# Altium integrated library Linear Technology Power Management uModule Regulators.IntLib: 166 symbols (part 48 of 67)
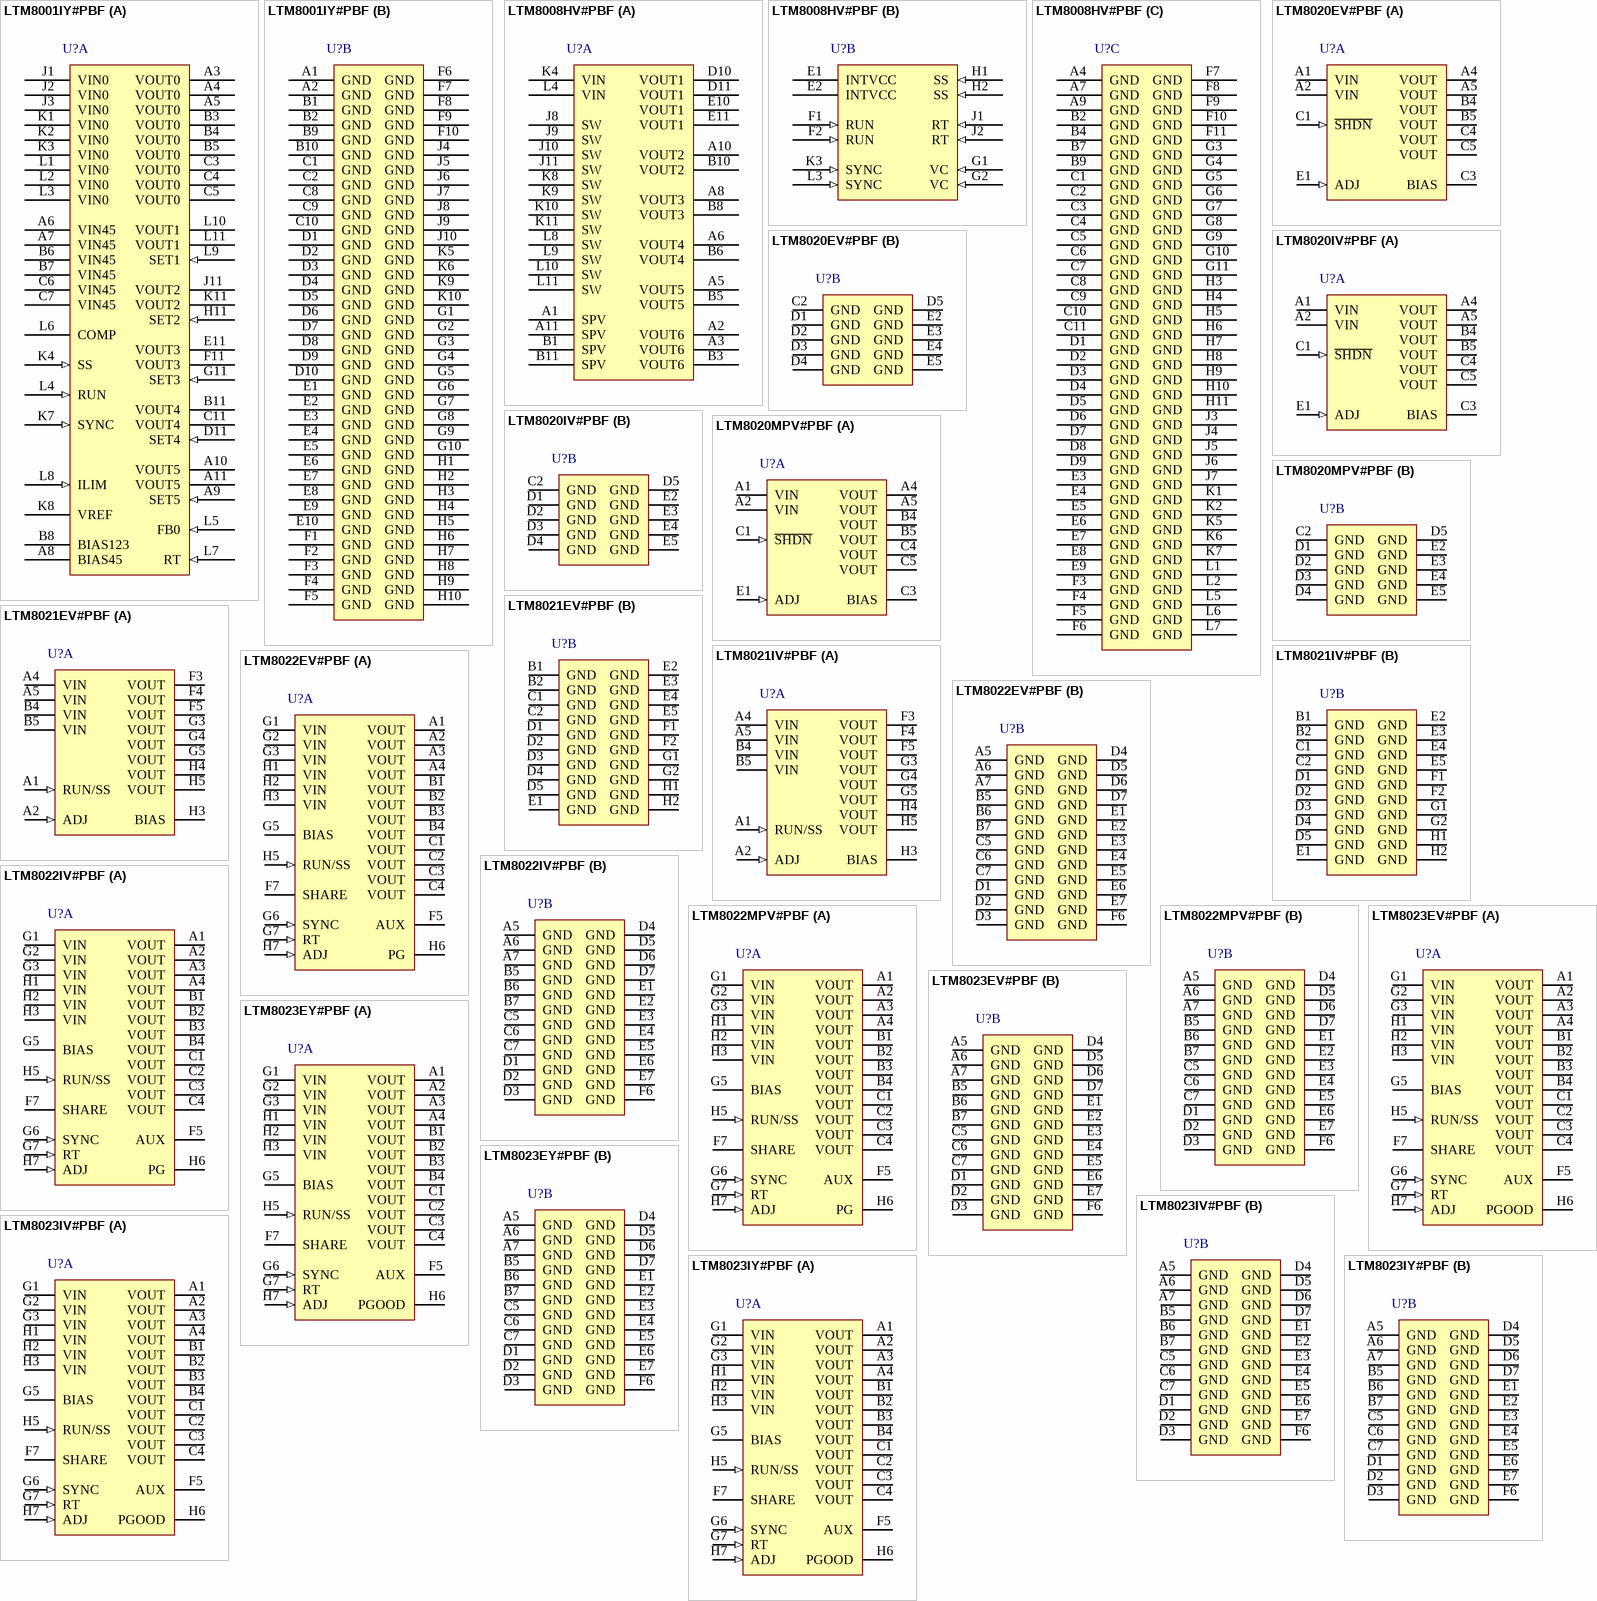
[diagram p74: symbols LTM8001IY#PBF to LTM8023IY#PBF]

## LTM8008HV#PBF
designator U?
72 VIN, 6 Output DC/DC SEPIC uModule Regulator, 121-pin LGA, -40 to 150 degC, Pb-Free, Tray; Manufacturer: Linear Technology; PartNumber: LTM8008HV#PBF; Extended Temp: H; Frequency Adjust Range: 100kHz - 1MHz; Frequency Sync Range: 120kHz - 1MHz; Frequency(kHz): 1000; Ishutdown(uA): 70; Isupply(mA): 1.6; Number of Outputs: 6; Output Current(A): 0.5; Synchronous: no; Topology: Sepic, LDO; Vin Max(V): 72; Vin Min(V): 3; Vout Max(V): 5; Vout Min(V): 3.3; DatasheetVersion: Rev. A; PackageVersion: Rev. B, 02/2013; PackageReference: LGA-121; PackageDescription: 121-Pin LGA, Body 15 x 15 mm, Pitch 1.27 mm; Supplier 1: Digi-Key; Supplier Part Number 1: LTM8008HV#PBF-ND; Packing: Tray; RoHS: TRUE; Tracking: no; Mounting Technology: Surface Mount; Code_JEDEC: MO-222; ComponentLink1Description: Manufacturer URL; ComponentLink1URL: http://www.linear.com/; ComponentLink2Description: Datasheet; ComponentLink2URL: http://cds.linear.com/docs/en/datasheet/8008fa.pdf; ComponentLink3Description: Package Specification; ComponentLink3URL: http://cds.linear.com/docs/en/packaging/05081861_B_lga121.pdf
footprint LT-LGA-121-05-08-1861_V (LGA, 121-Leads, Body 15x15mm, Pitch 1.27mm)
part A pins: A1 SPV (power) "SPV (A1, B1, A11, B11): SEPIC Output Voltage. This is connected to the internal SEPIC feedback network and is used to power the six post regulators. It must be locally bypassed by at least 22uF. Apply a bypass capacitor at (See Datasheet)", A2 VOUT6 (power) "VOUT6 (A2, A3, B2): Output of the 3.3V, 300mA Linear Post Regulator. It must be bypassed by at least 10uF.", A3 VOUT6 (power) "VOUT6 (A2, A3, B2): Output of the 3.3V, 300mA Linear Post Regulator. It must be bypassed by at least 10uF.", A5 VOUT5 (power) "VOUT5 (A5, B5): Output of One of the Four 5V, 150mA Linear Post Regulators. It must be bypassed with at least 10uF.", A6 VOUT4 (power) "VOUT4 (A6, B6): Output of One of the Four 5V, 150mA Linear Post Regulators. It must be bypassed with at least 10uF.", A8 VOUT3 (power) "VOUT3 (A8, B8): Output of One of the Four 5V, 150mA Linear Post Regulators. It must be bypassed with at least 10uF.", A10 VOUT2 (power) "VOUT2 (A10, B10): Output of One of the Four 5V, 150mA Linear Post Regulators. It must be bypassed with at least 10uF.", A11 SPV (power) "SPV (A1, B1, A11, B11): SEPIC Output Voltage. This is connected to the internal SEPIC feedback network and is used to power the six post regulators. It must be locally bypassed by at least 22uF. Apply a bypass capacitor at (See Datasheet)", B1 SPV (power) "SPV (A1, B1, A11, B11): SEPIC Output Voltage. This is connected to the internal SEPIC feedback network and is used to power the six post regulators. It must be locally bypassed by at least 22uF. Apply a bypass capacitor at (See Datasheet)", B3 VOUT6 (power) "VOUT6 (A2, A3, B2): Output of the 3.3V, 300mA Linear Post Regulator. It must be bypassed by at least 10uF.", B5 VOUT5 (power) "VOUT5 (A5, B5): Output of One of the Four 5V, 150mA Linear Post Regulators. It must be bypassed with at least 10uF.", B6 VOUT4 (power) "VOUT4 (A6, B6): Output of One of the Four 5V, 150mA Linear Post Regulators. It must be bypassed with at least 10uF.", B8 VOUT3 (power) "VOUT3 (A8, B8): Output of One of the Four 5V, 150mA Linear Post Regulators. It must be bypassed with at least 10uF.", B10 VOUT2 (power) "VOUT2 (A10, B10): Output of One of the Four 5V, 150mA Linear Post Regulators. It must be bypassed with at least 10uF.", B11 SPV (power) "SPV (A1, B1, A11, B11): SEPIC Output Voltage. This is connected to the internal SEPIC feedback network and is used to power the six post regulators. It must be locally bypassed by at least 22uF. Apply a bypass capacitor at (See Datasheet)", D10 VOUT1 (power) "VOUT1 (Bank 2): Output of the 5V, 500mA Linear Post Regulator. It must be locally bypassed with at least 22uF.", D11 VOUT1 (power) "VOUT1 (Bank 2): Output of the 5V, 500mA Linear Post Regulator. It must be locally bypassed with at least 22uF.", E10 VOUT1 (power) "VOUT1 (Bank 2): Output of the 5V, 500mA Linear Post Regulator. It must be locally bypassed with at least 22uF.", E11 VOUT1 (power) "VOUT1 (Bank 2): Output of the 5V, 500mA Linear Post Regulator. It must be locally bypassed with at least 22uF.", J8 SW (power) "SW (Bank 3): SEPIC Converter Switch. This is the drain of the internal power switching MOSFET.", J9 SW (power) "SW (Bank 3): SEPIC Converter Switch. This is the drain of the internal power switching MOSFET.", J10 SW (power) "SW (Bank 3): SEPIC Converter Switch. This is the drain of the internal power switching MOSFET.", J11 SW (power) "SW (Bank 3): SEPIC Converter Switch. This is the drain of the internal power switching MOSFET.", K4 VIN (power) "VIN (K4, L4): Input Supply Pin. Must be locally bypassed with a 0.22uF or larger capacitor placed close to the pin.", K8 SW (power) "SW (Bank 3): SEPIC Converter Switch. This is the drain of the internal power switching MOSFET.", K9 SW (power) "SW (Bank 3): SEPIC Converter Switch. This is the drain of the internal power switching MOSFET.", K10 SW (power) "SW (Bank 3): SEPIC Converter Switch. This is the drain of the internal power switching MOSFET.", K11 SW (power) "SW (Bank 3): SEPIC Converter Switch. This is the drain of the internal power switching MOSFET.", L4 VIN (power) "VIN (K4, L4): Input Supply Pin. Must be locally bypassed with a 0.22uF or larger capacitor placed close to the pin.", L8 SW (power) "SW (Bank 3): SEPIC Converter Switch. This is the drain of the internal power switching MOSFET.", L9 SW (power) "SW (Bank 3): SEPIC Converter Switch. This is the drain of the internal power switching MOSFET.", L10 SW (power) "SW (Bank 3): SEPIC Converter Switch. This is the drain of the internal power switching MOSFET.", L11 SW (power) "SW (Bank 3): SEPIC Converter Switch. This is the drain of the internal power switching MOSFET."
part B pins: E1 INTVCC (power) "INTVCC (E1, E2): Regulated Supply for Internal Loads. This is derived from VIN and SPV; it must be bypassed with at least a 4.7uF capacitor placed close to the pin.", E2 INTVCC (power) "INTVCC (E1, E2): Regulated Supply for Internal Loads. This is derived from VIN and SPV; it must be bypassed with at least a 4.7uF capacitor placed close to the pin.", F1 RUN (in) "RUN (F1, F2): Shutdown and Undervoltage Detect Pin. An accurate 1.21V (nominal) falling threshold with externally programmable hysteresis detects when power is okay to enable switching. Rising hysteresis is generated by the (See Datasheet)", F2 RUN (in) "RUN (F1, F2): Shutdown and Undervoltage Detect Pin. An accurate 1.21V (nominal) falling threshold with externally programmable hysteresis detects when power is okay to enable switching. Rising hysteresis is generated by the (See Datasheet)", G1 VC (in) "VC (G1, G2): Error Amplifier Compensation Pin. This is used to stabilize the voltage loop with an external RC network.", G2 VC (in) "VC (G1, G2): Error Amplifier Compensation Pin. This is used to stabilize the voltage loop with an external RC network.", H1 SS (in) "SS (H1, H2): Soft-Start Pin. This pin modulates the compensation pin voltage (VC) clamp. The soft-start interval is set with an external capacitor. The pin has a 10uA (typical) pull-up current source to an internal 2.5V rail.(See Datasheet)", H2 SS (in) "SS (H1, H2): Soft-Start Pin. This pin modulates the compensation pin voltage (VC) clamp. The soft-start interval is set with an external capacitor. The pin has a 10uA (typical) pull-up current source to an internal 2.5V rail.(See Datasheet)", J1 RT (in) "RT (J1, J2): The RT pin is used to program the switching frequency of the LTM8008 by connecting a resistor from this pin to ground. Table 1 gives the resistor values that correspond to the resultant switching frequency. (See Datasheet)", J2 RT (in) "RT (J1, J2): The RT pin is used to program the switching frequency of the LTM8008 by connecting a resistor from this pin to ground. Table 1 gives the resistor values that correspond to the resultant switching frequency. (See Datasheet)", K3 SYNC (in) "SYNC (K3, L3): Frequency Synchronization Pin. It is used to synchronize the switching frequency to an external clock. If this feature is used, an RT resistor should be chosen to program a switching frequency 20% lower than (See Datasheet)", L3 SYNC (in) "SYNC (K3, L3): Frequency Synchronization Pin. It is used to synchronize the switching frequency to an external clock. If this feature is used, an RT resistor should be chosen to program a switching frequency 20% lower than (See Datasheet)"
part C pins: A4 GND (power) "GND (Bank 1): Ground. Tie these GND pins to a local ground plane under the LTM8008 and the circuit components. In most applications, the bulk of the heat flow out of the LTM8008 is through these pads, so the printed circuit (See Datasheet)", A7 GND (power) "GND (Bank 1): Ground. Tie these GND pins to a local ground plane under the LTM8008 and the circuit components. In most applications, the bulk of the heat flow out of the LTM8008 is through these pads, so the printed circuit (See Datasheet)", A9 GND (power) "GND (Bank 1): Ground. Tie these GND pins to a local ground plane under the LTM8008 and the circuit components. In most applications, the bulk of the heat flow out of the LTM8008 is through these pads, so the printed circuit (See Datasheet)", B2 GND (power) "GND (Bank 1): Ground. Tie these GND pins to a local ground plane under the LTM8008 and the circuit components. In most applications, the bulk of the heat flow out of the LTM8008 is through these pads, so the printed circuit (See Datasheet)", B4 GND (power) "GND (Bank 1): Ground. Tie these GND pins to a local ground plane under the LTM8008 and the circuit components. In most applications, the bulk of the heat flow out of the LTM8008 is through these pads, so the printed circuit (See Datasheet)", B7 GND (power) "GND (Bank 1): Ground. Tie these GND pins to a local ground plane under the LTM8008 and the circuit components. In most applications, the bulk of the heat flow out of the LTM8008 is through these pads, so the printed circuit (See Datasheet)", B9 GND (power) "GND (Bank 1): Ground. Tie these GND pins to a local ground plane under the LTM8008 and the circuit components. In most applications, the bulk of the heat flow out of the LTM8008 is through these pads, so the printed circuit (See Datasheet)", C1 GND (power) "GND (Bank 1): Ground. Tie these GND pins to a local ground plane under the LTM8008 and the circuit components. In most applications, the bulk of the heat flow out of the LTM8008 is through these pads, so the printed circuit (See Datasheet)", C2 GND (power) "GND (Bank 1): Ground. Tie these GND pins to a local ground plane under the LTM8008 and the circuit components. In most applications, the bulk of the heat flow out of the LTM8008 is through these pads, so the printed circuit (See Datasheet)", C3 GND (power) "GND (Bank 1): Ground. Tie these GND pins to a local ground plane under the LTM8008 and the circuit components. In most applications, the bulk of the heat flow out of the LTM8008 is through these pads, so the printed circuit (See Datasheet)", C4 GND (power) "GND (Bank 1): Ground. Tie these GND pins to a local ground plane under the LTM8008 and the circuit components. In most applications, the bulk of the heat flow out of the LTM8008 is through these pads, so the printed circuit (See Datasheet)", C5 GND (power) "GND (Bank 1): Ground. Tie these GND pins to a local ground plane under the LTM8008 and the circuit components. In most applications, the bulk of the heat flow out of the LTM8008 is through these pads, so the printed circuit (See Datasheet)", C6 GND (power) "GND (Bank 1): Ground. Tie these GND pins to a local ground plane under the LTM8008 and the circuit components. In most applications, the bulk of the heat flow out of the LTM8008 is through these pads, so the printed circuit (See Datasheet)", C7 GND (power) "GND (Bank 1): Ground. Tie these GND pins to a local ground plane under the LTM8008 and the circuit components. In most applications, the bulk of the heat flow out of the LTM8008 is through these pads, so the printed circuit (See Datasheet)", C8 GND (power) "GND (Bank 1): Ground. Tie these GND pins to a local ground plane under the LTM8008 and the circuit components. In most applications, the bulk of the heat flow out of the LTM8008 is through these pads, so the printed circuit (See Datasheet)", C9 GND (power) "GND (Bank 1): Ground. Tie these GND pins to a local ground plane under the LTM8008 and the circuit components. In most applications, the bulk of the heat flow out of the LTM8008 is through these pads, so the printed circuit (See Datasheet)", C10 GND (power) "GND (Bank 1): Ground. Tie these GND pins to a local ground plane under the LTM8008 and the circuit components. In most applications, the bulk of the heat flow out of the LTM8008 is through these pads, so the printed circuit (See Datasheet)", C11 GND (power) "GND (Bank 1): Ground. Tie these GND pins to a local ground plane under the LTM8008 and the circuit components. In most applications, the bulk of the heat flow out of the LTM8008 is through these pads, so the printed circuit (See Datasheet)", D1 GND (power) "GND (Bank 1): Ground. Tie these GND pins to a local ground plane under the LTM8008 and the circuit components. In most applications, the bulk of the heat flow out of the LTM8008 is through these pads, so the printed circuit (See Datasheet)", D2 GND (power) "GND (Bank 1): Ground. Tie these GND pins to a local ground plane under the LTM8008 and the circuit components. In most applications, the bulk of the heat flow out of the LTM8008 is through these pads, so the printed circuit (See Datasheet)", D3 GND (power) "GND (Bank 1): Ground. Tie these GND pins to a local ground plane under the LTM8008 and the circuit components. In most applications, the bulk of the heat flow out of the LTM8008 is through these pads, so the printed circuit (See Datasheet)", D4 GND (power) "GND (Bank 1): Ground. Tie these GND pins to a local ground plane under the LTM8008 and the circuit components. In most applications, the bulk of the heat flow out of the LTM8008 is through these pads, so the printed circuit (See Datasheet)", D5 GND (power) "GND (Bank 1): Ground. Tie these GND pins to a local ground plane under the LTM8008 and the circuit components. In most applications, the bulk of the heat flow out of the LTM8008 is through these pads, so the printed circuit (See Datasheet)", D6 GND (power) "GND (Bank 1): Ground. Tie these GND pins to a local ground plane under the LTM8008 and the circuit components. In most applications, the bulk of the heat flow out of the LTM8008 is through these pads, so the printed circuit (See Datasheet)", D7 GND (power) "GND (Bank 1): Ground. Tie these GND pins to a local ground plane under the LTM8008 and the circuit components. In most applications, the bulk of the heat flow out of the LTM8008 is through these pads, so the printed circuit (See Datasheet)", D8 GND (power) "GND (Bank 1): Ground. Tie these GND pins to a local ground plane under the LTM8008 and the circuit components. In most applications, the bulk of the heat flow out of the LTM8008 is through these pads, so the printed circuit (See Datasheet)", D9 GND (power) "GND (Bank 1): Ground. Tie these GND pins to a local ground plane under the LTM8008 and the circuit components. In most applications, the bulk of the heat flow out of the LTM8008 is through these pads, so the printed circuit (See Datasheet)", E3 GND (power) "GND (Bank 1): Ground. Tie these GND pins to a local ground plane under the LTM8008 and the circuit components. In most applications, the bulk of the heat flow out of the LTM8008 is through these pads, so the printed circuit (See Datasheet)", E4 GND (power) "GND (Bank 1): Ground. Tie these GND pins to a local ground plane under the LTM8008 and the circuit components. In most applications, the bulk of the heat flow out of the LTM8008 is through these pads, so the printed circuit (See Datasheet)", E5 GND (power) "GND (Bank 1): Ground. Tie these GND pins to a local ground plane under the LTM8008 and the circuit components. In most applications, the bulk of the heat flow out of the LTM8008 is through these pads, so the printed circuit (See Datasheet)", E6 GND (power) "GND (Bank 1): Ground. Tie these GND pins to a local ground plane under the LTM8008 and the circuit components. In most applications, the bulk of the heat flow out of the LTM8008 is through these pads, so the printed circuit (See Datasheet)", E7 GND (power) "GND (Bank 1): Ground. Tie these GND pins to a local ground plane under the LTM8008 and the circuit components. In most applications, the bulk of the heat flow out of the LTM8008 is through these pads, so the printed circuit (See Datasheet)", E8 GND (power) "GND (Bank 1): Ground. Tie these GND pins to a local ground plane under the LTM8008 and the circuit components. In most applications, the bulk of the heat flow out of the LTM8008 is through these pads, so the printed circuit (See Datasheet)", E9 GND (power) "GND (Bank 1): Ground. Tie these GND pins to a local ground plane under the LTM8008 and the circuit components. In most applications, the bulk of the heat flow out of the LTM8008 is through these pads, so the printed circuit (See Datasheet)", F3 GND (power) "GND (Bank 1): Ground. Tie these GND pins to a local ground plane under the LTM8008 and the circuit components. In most applications, the bulk of the heat flow out of the LTM8008 is through these pads, so the printed circuit (See Datasheet)", F4 GND (power) "GND (Bank 1): Ground. Tie these GND pins to a local ground plane under the LTM8008 and the circuit components. In most applications, the bulk of the heat flow out of the LTM8008 is through these pads, so the printed circuit (See Datasheet)", F5 GND (power) "GND (Bank 1): Ground. Tie these GND pins to a local ground plane under the LTM8008 and the circuit components. In most applications, the bulk of the heat flow out of the LTM8008 is through these pads, so the printed circuit (See Datasheet)", F6 GND (power) "GND (Bank 1): Ground. Tie these GND pins to a local ground plane under the LTM8008 and the circuit components. In most applications, the bulk of the heat flow out of the LTM8008 is through these pads, so the printed circuit (See Datasheet)", F7 GND (power) "GND (Bank 1): Ground. Tie these GND pins to a local ground plane under the LTM8008 and the circuit components. In most applications, the bulk of the heat flow out of the LTM8008 is through these pads, so the printed circuit (See Datasheet)", F8 GND (power) "GND (Bank 1): Ground. Tie these GND pins to a local ground plane under the LTM8008 and the circuit components. In most applications, the bulk of the heat flow out of the LTM8008 is through these pads, so the printed circuit (See Datasheet)", F9 GND (power) "GND (Bank 1): Ground. Tie these GND pins to a local ground plane under the LTM8008 and the circuit components. In most applications, the bulk of the heat flow out of the LTM8008 is through these pads, so the printed circuit (See Datasheet)", F10 GND (power) "GND (Bank 1): Ground. Tie these GND pins to a local ground plane under the LTM8008 and the circuit components. In most applications, the bulk of the heat flow out of the LTM8008 is through these pads, so the printed circuit (See Datasheet)", F11 GND (power) "GND (Bank 1): Ground. Tie these GND pins to a local ground plane under the LTM8008 and the circuit components. In most applications, the bulk of the heat flow out of the LTM8008 is through these pads, so the printed circuit (See Datasheet)", G3 GND (power) "GND (Bank 1): Ground. Tie these GND pins to a local ground plane under the LTM8008 and the circuit components. In most applications, the bulk of the heat flow out of the LTM8008 is through these pads, so the printed circuit (See Datasheet)", G4 GND (power) "GND (Bank 1): Ground. Tie these GND pins to a local ground plane under the LTM8008 and the circuit components. In most applications, the bulk of the heat flow out of the LTM8008 is through these pads, so the printed circuit (See Datasheet)", G5 GND (power) "GND (Bank 1): Ground. Tie these GND pins to a local ground plane under the LTM8008 and the circuit components. In most applications, the bulk of the heat flow out of the LTM8008 is through these pads, so the printed circuit (See Datasheet)", G6 GND (power) "GND (Bank 1): Ground. Tie these GND pins to a local ground plane under the LTM8008 and the circuit components. In most applications, the bulk of the heat flow out of the LTM8008 is through these pads, so the printed circuit (See Datasheet)", G7 GND (power) "GND (Bank 1): Ground. Tie these GND pins to a local ground plane under the LTM8008 and the circuit components. In most applications, the bulk of the heat flow out of the LTM8008 is through these pads, so the printed circuit (See Datasheet)", G8 GND (power) "GND (Bank 1): Ground. Tie these GND pins to a local ground plane under the LTM8008 and the circuit components. In most applications, the bulk of the heat flow out of the LTM8008 is through these pads, so the printed circuit (See Datasheet)", G9 GND (power) "GND (Bank 1): Ground. Tie these GND pins to a local ground plane under the LTM8008 and the circuit components. In most applications, the bulk of the heat flow out of the LTM8008 is through these pads, so the printed circuit (See Datasheet)", G10 GND (power) "GND (Bank 1): Ground. Tie these GND pins to a local ground plane under the LTM8008 and the circuit components. In most applications, the bulk of the heat flow out of the LTM8008 is through these pads, so the printed circuit (See Datasheet)", G11 GND (power) "GND (Bank 1): Ground. Tie these GND pins to a local ground plane under the LTM8008 and the circuit components. In most applications, the bulk of the heat flow out of the LTM8008 is through these pads, so the printed circuit (See Datasheet)", H3 GND (power) "GND (Bank 1): Ground. Tie these GND pins to a local ground plane under the LTM8008 and the circuit components. In most applications, the bulk of the heat flow out of the LTM8008 is through these pads, so the printed circuit (See Datasheet)", H4 GND (power) "GND (Bank 1): Ground. Tie these GND pins to a local ground plane under the LTM8008 and the circuit components. In most applications, the bulk of the heat flow out of the LTM8008 is through these pads, so the printed circuit (See Datasheet)", H5 GND (power) "GND (Bank 1): Ground. Tie these GND pins to a local ground plane under the LTM8008 and the circuit components. In most applications, the bulk of the heat flow out of the LTM8008 is through these pads, so the printed circuit (See Datasheet)", H6 GND (power) "GND (Bank 1): Ground. Tie these GND pins to a local ground plane under the LTM8008 and the circuit components. In most applications, the bulk of the heat flow out of the LTM8008 is through these pads, so the printed circuit (See Datasheet)", H7 GND (power) "GND (Bank 1): Ground. Tie these GND pins to a local ground plane under the LTM8008 and the circuit components. In most applications, the bulk of the heat flow out of the LTM8008 is through these pads, so the printed circuit (See Datasheet)", H8 GND (power) "GND (Bank 1): Ground. Tie these GND pins to a local ground plane under the LTM8008 and the circuit components. In most applications, the bulk of the heat flow out of the LTM8008 is through these pads, so the printed circuit (See Datasheet)", H9 GND (power) "GND (Bank 1): Ground. Tie these GND pins to a local ground plane under the LTM8008 and the circuit components. In most applications, the bulk of the heat flow out of the LTM8008 is through these pads, so the printed circuit (See Datasheet)", H10 GND (power) "GND (Bank 1): Ground. Tie these GND pins to a local ground plane under the LTM8008 and the circuit components. In most applications, the bulk of the heat flow out of the LTM8008 is through these pads, so the printed circuit (See Datasheet)", H11 GND (power) "GND (Bank 1): Ground. Tie these GND pins to a local ground plane under the LTM8008 and the circuit components. In most applications, the bulk of the heat flow out of the LTM8008 is through these pads, so the printed circuit (See Datasheet)", J3 GND (power) "GND (Bank 1): Ground. Tie these GND pins to a local ground plane under the LTM8008 and the circuit components. In most applications, the bulk of the heat flow out of the LTM8008 is through these pads, so the printed circuit (See Datasheet)", J4 GND (power) "GND (Bank 1): Ground. Tie these GND pins to a local ground plane under the LTM8008 and the circuit components. In most applications, the bulk of the heat flow out of the LTM8008 is through these pads, so the printed circuit (See Datasheet)", J5 GND (power) "GND (Bank 1): Ground. Tie these GND pins to a local ground plane under the LTM8008 and the circuit components. In most applications, the bulk of the heat flow out of the LTM8008 is through these pads, so the printed circuit (See Datasheet)", J6 GND (power) "GND (Bank 1): Ground. Tie these GND pins to a local ground plane under the LTM8008 and the circuit components. In most applications, the bulk of the heat flow out of the LTM8008 is through these pads, so the printed circuit (See Datasheet)", J7 GND (power) "GND (Bank 1): Ground. Tie these GND pins to a local ground plane under the LTM8008 and the circuit components. In most applications, the bulk of the heat flow out of the LTM8008 is through these pads, so the printed circuit (See Datasheet)", K1 GND (power) "GND (Bank 1): Ground. Tie these GND pins to a local ground plane under the LTM8008 and the circuit components. In most applications, the bulk of the heat flow out of the LTM8008 is through these pads, so the printed circuit (See Datasheet)", K2 GND (power) "GND (Bank 1): Ground. Tie these GND pins to a local ground plane under the LTM8008 and the circuit components. In most applications, the bulk of the heat flow out of the LTM8008 is through these pads, so the printed circuit (See Datasheet)", K5 GND (power) "GND (Bank 1): Ground. Tie these GND pins to a local ground plane under the LTM8008 and the circuit components. In most applications, the bulk of the heat flow out of the LTM8008 is through these pads, so the printed circuit (See Datasheet)", K6 GND (power) "GND (Bank 1): Ground. Tie these GND pins to a local ground plane under the LTM8008 and the circuit components. In most applications, the bulk of the heat flow out of the LTM8008 is through these pads, so the printed circuit (See Datasheet)", K7 GND (power) "GND (Bank 1): Ground. Tie these GND pins to a local ground plane under the LTM8008 and the circuit components. In most applications, the bulk of the heat flow out of the LTM8008 is through these pads, so the printed circuit (See Datasheet)", L1 GND (power) "GND (Bank 1): Ground. Tie these GND pins to a local ground plane under the LTM8008 and the circuit components. In most applications, the bulk of the heat flow out of the LTM8008 is through these pads, so the printed circuit (See Datasheet)", L2 GND (power) "GND (Bank 1): Ground. Tie these GND pins to a local ground plane under the LTM8008 and the circuit components. In most applications, the bulk of the heat flow out of the LTM8008 is through these pads, so the printed circuit (See Datasheet)", L5 GND (power) "GND (Bank 1): Ground. Tie these GND pins to a local ground plane under the LTM8008 and the circuit components. In most applications, the bulk of the heat flow out of the LTM8008 is through these pads, so the printed circuit (See Datasheet)", L6 GND (power) "GND (Bank 1): Ground. Tie these GND pins to a local ground plane under the LTM8008 and the circuit components. In most applications, the bulk of the heat flow out of the LTM8008 is through these pads, so the printed circuit (See Datasheet)", L7 GND (power) "GND (Bank 1): Ground. Tie these GND pins to a local ground plane under the LTM8008 and the circuit components. In most applications, the bulk of the heat flow out of the LTM8008 is through these pads, so the printed circuit (See Datasheet)"

## LTM8020EV#PBF
designator U?
200 mA, 36 V DC/DC uModule Regulator, 21-pin LGA, -40 to 85 degC, Pb-Free, Tray; Manufacturer: Linear Technology; PartNumber: LTM8020EV#PBF; Extended Temp: E, MP; Frequency(kHz): 450; Ishutdown(uA): 1; Isupply(mA): 0.01; Output Current(A): 0.2; Switch Current(A): 0.5; Synchronous: no; Topology: Buck; Vin Max(V): 36; Vin Min(V): 4; Vout Max(V): 5; Vout Min(V): 1.2; DatasheetVersion: Rev. D; PackageVersion: Rev. B, 02/2013; PackageReference: LGA-21; PackageDescription: 21-Pin LGA, Body 6.25 x 6.25 mm, Pitch 1.27 mm; Supplier 1: Digi-Key; Supplier Part Number 1: LTM8020EV#PBF-ND; Supplier 2: Farnell; Supplier Part Number 2: 1663757; Supplier 3: Newark; Supplier Part Number 3: 79M3638; Number of Outputs: 1; Packing: Tray; RoHS: TRUE; Tracking: no; Mounting Technology: Surface Mount; Code_JEDEC: MO-222; ComponentLink1Description: Manufacturer URL; ComponentLink1URL: http://www.linear.com/; ComponentLink2Description: Datasheet; ComponentLink2URL: http://cds.linear.com/docs/en/datasheet/8020fd.pdf; ComponentLink3Description: Package Specification; ComponentLink3URL: http://cds.linear.com/docs/en/packaging/05081803_B_lga21.pdf
footprint LT-LGA-21-6250X6250X2320_V (LGA, 21-Leads, Body 6.25x6.25mm, Pitch 1.27mm)
part A pins: A1 VIN (power) "The VIN pins supply current to the  LTM8020’s internal regulator and to the internal power  switch. These pins must be locally bypassed with an  external, low ESR capacitor of at least 1uF.", A2 VIN (power) "The VIN pins supply current to the  LTM8020’s internal regulator and to the internal power  switch. These pins must be locally bypassed with an  external, low ESR capacitor of at least 1uF.", A4 VOUT (power) "Power Output Pins.  An external capacitor is connected from VOUT to GND in  most applications. Apply output load between these pins  and GND.", A5 VOUT (power) "Power Output Pins.  An external capacitor is connected from VOUT to GND in  most applications. Apply output load between these pins  and GND.", B4 VOUT (power) "Power Output Pins.  An external capacitor is connected from VOUT to GND in  most applications. Apply output load between these pins  and GND.", B5 VOUT (power) "Power Output Pins.  An external capacitor is connected from VOUT to GND in  most applications. Apply output load between these pins  and GND.", C1 ~{SHDN} (in) "The S\H\D\N\ pin is used to put the LTM8020 in  shutdown mode. Tie to ground to shut down the LTM8020.  Apply 2V or more for normal operation. If the shutdown  feature is not used, tie this pin to VIN.", C3 BIAS (power) "The BIAS pin connects to the internal boost Schottky diode and to the internal regulator. Tie to VOUT when VOUT > 3V or to another DC voltage greater  than 3V otherwise. When BIAS > 3V the internal circuitry  will be powered (See Datasheet)", C4 VOUT (power) "Power Output Pins.  An external capacitor is connected from VOUT to GND in  most applications. Apply output load between these pins  and GND.", C5 VOUT (power) "Power Output Pins.  An external capacitor is connected from VOUT to GND in  most applications. Apply output load between these pins  and GND.", E1 ADJ (in) "The LTM8020 regulates its ADJ pin to 1.25V.  Connect the adjust resistor from this pin to GND. The  value of this adjust resistor is determined by the equation  RADJ = 623.75/(VOUT - 1.25), where RADJ is in kohm. Note  that (See Datasheet)"
part B pins: C2 GND (power) "The  GND connections serve as the main signal return and the  primary heat sink for the LTM8020. Tie the GND pins to  a local ground plane below the LTM8020 and the circuit  components. Return the feedback divider to this (See Datasheet)", D1 GND (power) "The  GND connections serve as the main signal return and the  primary heat sink for the LTM8020. Tie the GND pins to  a local ground plane below the LTM8020 and the circuit  components. Return the feedback divider to this (See Datasheet)", D2 GND (power) "The  GND connections serve as the main signal return and the  primary heat sink for the LTM8020. Tie the GND pins to  a local ground plane below the LTM8020 and the circuit  components. Return the feedback divider to this (See Datasheet)", D3 GND (power) "The  GND connections serve as the main signal return and the  primary heat sink for the LTM8020. Tie the GND pins to  a local ground plane below the LTM8020 and the circuit  components. Return the feedback divider to this (See Datasheet)", D4 GND (power) "The  GND connections serve as the main signal return and the  primary heat sink for the LTM8020. Tie the GND pins to  a local ground plane below the LTM8020 and the circuit  components. Return the feedback divider to this (See Datasheet)", D5 GND (power) "The  GND connections serve as the main signal return and the  primary heat sink for the LTM8020. Tie the GND pins to  a local ground plane below the LTM8020 and the circuit  components. Return the feedback divider to this (See Datasheet)", E2 GND (power) "The  GND connections serve as the main signal return and the  primary heat sink for the LTM8020. Tie the GND pins to  a local ground plane below the LTM8020 and the circuit  components. Return the feedback divider to this (See Datasheet)", E3 GND (power) "The  GND connections serve as the main signal return and the  primary heat sink for the LTM8020. Tie the GND pins to  a local ground plane below the LTM8020 and the circuit  components. Return the feedback divider to this (See Datasheet)", E4 GND (power) "The  GND connections serve as the main signal return and the  primary heat sink for the LTM8020. Tie the GND pins to  a local ground plane below the LTM8020 and the circuit  components. Return the feedback divider to this (See Datasheet)", E5 GND (power) "The  GND connections serve as the main signal return and the  primary heat sink for the LTM8020. Tie the GND pins to  a local ground plane below the LTM8020 and the circuit  components. Return the feedback divider to this (See Datasheet)"

## LTM8020IV#PBF
designator U?
200 mA, 36 V DC/DC uModule Regulator, 21-pin LGA, -40 to 85 degC, Pb-Free, Tray; Manufacturer: Linear Technology; PartNumber: LTM8020IV#PBF; Extended Temp: E, MP; Frequency(kHz): 450; Ishutdown(uA): 1; Isupply(mA): 0.01; Output Current(A): 0.2; Switch Current(A): 0.5; Synchronous: no; Topology: Buck; Vin Max(V): 36; Vin Min(V): 4; Vout Max(V): 5; Vout Min(V): 1.2; DatasheetVersion: Rev. D; PackageVersion: Rev. B, 02/2013; PackageReference: LGA-21; PackageDescription: 21-Pin LGA, Body 6.25 x 6.25 mm, Pitch 1.27 mm; Supplier 1: Digi-Key; Supplier Part Number 1: LTM8020IV#PBF-ND; Supplier 2: Farnell; Supplier Part Number 2: 1799823; Supplier 3: Newark; Supplier Part Number 3: 01N6436; Number of Outputs: 1; Packing: Tray; RoHS: TRUE; Tracking: no; Mounting Technology: Surface Mount; Code_JEDEC: MO-222; ComponentLink1Description: Manufacturer URL; ComponentLink1URL: http://www.linear.com/; ComponentLink2Description: Datasheet; ComponentLink2URL: http://cds.linear.com/docs/en/datasheet/8020fd.pdf; ComponentLink3Description: Package Specification; ComponentLink3URL: http://cds.linear.com/docs/en/packaging/05081803_B_lga21.pdf
footprint LT-LGA-21-6250X6250X2320_V (LGA, 21-Leads, Body 6.25x6.25mm, Pitch 1.27mm)
part A pins: A1 VIN (power) "The VIN pins supply current to the  LTM8020’s internal regulator and to the internal power  switch. These pins must be locally bypassed with an  external, low ESR capacitor of at least 1uF.", A2 VIN (power) "The VIN pins supply current to the  LTM8020’s internal regulator and to the internal power  switch. These pins must be locally bypassed with an  external, low ESR capacitor of at least 1uF.", A4 VOUT (power) "Power Output Pins.  An external capacitor is connected from VOUT to GND in  most applications. Apply output load between these pins  and GND.", A5 VOUT (power) "Power Output Pins.  An external capacitor is connected from VOUT to GND in  most applications. Apply output load between these pins  and GND.", B4 VOUT (power) "Power Output Pins.  An external capacitor is connected from VOUT to GND in  most applications. Apply output load between these pins  and GND.", B5 VOUT (power) "Power Output Pins.  An external capacitor is connected from VOUT to GND in  most applications. Apply output load between these pins  and GND.", C1 ~{SHDN} (in) "The S\H\D\N\ pin is used to put the LTM8020 in  shutdown mode. Tie to ground to shut down the LTM8020.  Apply 2V or more for normal operation. If the shutdown  feature is not used, tie this pin to VIN.", C3 BIAS (power) "The BIAS pin connects to the internal boost Schottky diode and to the internal regulator. Tie to VOUT when VOUT > 3V or to another DC voltage greater  than 3V otherwise. When BIAS > 3V the internal circuitry  will be powered (See Datasheet)", C4 VOUT (power) "Power Output Pins.  An external capacitor is connected from VOUT to GND in  most applications. Apply output load between these pins  and GND.", C5 VOUT (power) "Power Output Pins.  An external capacitor is connected from VOUT to GND in  most applications. Apply output load between these pins  and GND.", E1 ADJ (in) "The LTM8020 regulates its ADJ pin to 1.25V.  Connect the adjust resistor from this pin to GND. The  value of this adjust resistor is determined by the equation  RADJ = 623.75/(VOUT - 1.25), where RADJ is in kohm. Note  that (See Datasheet)"
part B pins: C2 GND (power) "The  GND connections serve as the main signal return and the  primary heat sink for the LTM8020. Tie the GND pins to  a local ground plane below the LTM8020 and the circuit  components. Return the feedback divider to this (See Datasheet)", D1 GND (power) "The  GND connections serve as the main signal return and the  primary heat sink for the LTM8020. Tie the GND pins to  a local ground plane below the LTM8020 and the circuit  components. Return the feedback divider to this (See Datasheet)", D2 GND (power) "The  GND connections serve as the main signal return and the  primary heat sink for the LTM8020. Tie the GND pins to  a local ground plane below the LTM8020 and the circuit  components. Return the feedback divider to this (See Datasheet)", D3 GND (power) "The  GND connections serve as the main signal return and the  primary heat sink for the LTM8020. Tie the GND pins to  a local ground plane below the LTM8020 and the circuit  components. Return the feedback divider to this (See Datasheet)", D4 GND (power) "The  GND connections serve as the main signal return and the  primary heat sink for the LTM8020. Tie the GND pins to  a local ground plane below the LTM8020 and the circuit  components. Return the feedback divider to this (See Datasheet)", D5 GND (power) "The  GND connections serve as the main signal return and the  primary heat sink for the LTM8020. Tie the GND pins to  a local ground plane below the LTM8020 and the circuit  components. Return the feedback divider to this (See Datasheet)", E2 GND (power) "The  GND connections serve as the main signal return and the  primary heat sink for the LTM8020. Tie the GND pins to  a local ground plane below the LTM8020 and the circuit  components. Return the feedback divider to this (See Datasheet)", E3 GND (power) "The  GND connections serve as the main signal return and the  primary heat sink for the LTM8020. Tie the GND pins to  a local ground plane below the LTM8020 and the circuit  components. Return the feedback divider to this (See Datasheet)", E4 GND (power) "The  GND connections serve as the main signal return and the  primary heat sink for the LTM8020. Tie the GND pins to  a local ground plane below the LTM8020 and the circuit  components. Return the feedback divider to this (See Datasheet)", E5 GND (power) "The  GND connections serve as the main signal return and the  primary heat sink for the LTM8020. Tie the GND pins to  a local ground plane below the LTM8020 and the circuit  components. Return the feedback divider to this (See Datasheet)"

## LTM8020MPV#PBF
designator U?
200 mA, 36 V DC/DC uModule Regulator, 21-pin LGA, -55 to 125 degC, Pb-Free, Tray; Manufacturer: Linear Technology; PartNumber: LTM8020MPV#PBF; Extended Temp: E, MP; Frequency(kHz): 450; Ishutdown(uA): 1; Isupply(mA): 0.01; Output Current(A): 0.2; Switch Current(A): 0.5; Synchronous: no; Topology: Buck; Vin Max(V): 36; Vin Min(V): 4; Vout Max(V): 5; Vout Min(V): 1.2; DatasheetVersion: Rev. D; PackageVersion: Rev. B, 02/2013; PackageReference: LGA-21; PackageDescription: 21-Pin LGA, Body 6.25 x 6.25 mm, Pitch 1.27 mm; Supplier 1: Digi-Key; Supplier Part Number 1: LTM8020MPV#PBF-ND; Supplier 2: Farnell; Supplier Part Number 2: 2308404; Supplier 3: Newark; Supplier Part Number 3: 19P9344; Number of Outputs: 1; Packing: Tray; RoHS: TRUE; Tracking: no; Mounting Technology: Surface Mount; Code_JEDEC: MO-222; ComponentLink1Description: Manufacturer URL; ComponentLink1URL: http://www.linear.com/; ComponentLink2Description: Datasheet; ComponentLink2URL: http://cds.linear.com/docs/en/datasheet/8020fd.pdf; ComponentLink3Description: Package Specification; ComponentLink3URL: http://cds.linear.com/docs/en/packaging/05081803_B_lga21.pdf
footprint LT-LGA-21-6250X6250X2320_V (LGA, 21-Leads, Body 6.25x6.25mm, Pitch 1.27mm)
part A pins: A1 VIN (power) "The VIN pins supply current to the  LTM8020’s internal regulator and to the internal power  switch. These pins must be locally bypassed with an  external, low ESR capacitor of at least 1uF.", A2 VIN (power) "The VIN pins supply current to the  LTM8020’s internal regulator and to the internal power  switch. These pins must be locally bypassed with an  external, low ESR capacitor of at least 1uF.", A4 VOUT (power) "Power Output Pins.  An external capacitor is connected from VOUT to GND in  most applications. Apply output load between these pins  and GND.", A5 VOUT (power) "Power Output Pins.  An external capacitor is connected from VOUT to GND in  most applications. Apply output load between these pins  and GND.", B4 VOUT (power) "Power Output Pins.  An external capacitor is connected from VOUT to GND in  most applications. Apply output load between these pins  and GND.", B5 VOUT (power) "Power Output Pins.  An external capacitor is connected from VOUT to GND in  most applications. Apply output load between these pins  and GND.", C1 ~{SHDN} (in) "The S\H\D\N\ pin is used to put the LTM8020 in  shutdown mode. Tie to ground to shut down the LTM8020.  Apply 2V or more for normal operation. If the shutdown  feature is not used, tie this pin to VIN.", C3 BIAS (power) "The BIAS pin connects to the internal boost Schottky diode and to the internal regulator. Tie to VOUT when VOUT > 3V or to another DC voltage greater  than 3V otherwise. When BIAS > 3V the internal circuitry  will be powered (See Datasheet)", C4 VOUT (power) "Power Output Pins.  An external capacitor is connected from VOUT to GND in  most applications. Apply output load between these pins  and GND.", C5 VOUT (power) "Power Output Pins.  An external capacitor is connected from VOUT to GND in  most applications. Apply output load between these pins  and GND.", E1 ADJ (in) "The LTM8020 regulates its ADJ pin to 1.25V.  Connect the adjust resistor from this pin to GND. The  value of this adjust resistor is determined by the equation  RADJ = 623.75/(VOUT - 1.25), where RADJ is in kohm. Note  that (See Datasheet)"
part B pins: C2 GND (power) "The  GND connections serve as the main signal return and the  primary heat sink for the LTM8020. Tie the GND pins to  a local ground plane below the LTM8020 and the circuit  components. Return the feedback divider to this (See Datasheet)", D1 GND (power) "The  GND connections serve as the main signal return and the  primary heat sink for the LTM8020. Tie the GND pins to  a local ground plane below the LTM8020 and the circuit  components. Return the feedback divider to this (See Datasheet)", D2 GND (power) "The  GND connections serve as the main signal return and the  primary heat sink for the LTM8020. Tie the GND pins to  a local ground plane below the LTM8020 and the circuit  components. Return the feedback divider to this (See Datasheet)", D3 GND (power) "The  GND connections serve as the main signal return and the  primary heat sink for the LTM8020. Tie the GND pins to  a local ground plane below the LTM8020 and the circuit  components. Return the feedback divider to this (See Datasheet)", D4 GND (power) "The  GND connections serve as the main signal return and the  primary heat sink for the LTM8020. Tie the GND pins to  a local ground plane below the LTM8020 and the circuit  components. Return the feedback divider to this (See Datasheet)", D5 GND (power) "The  GND connections serve as the main signal return and the  primary heat sink for the LTM8020. Tie the GND pins to  a local ground plane below the LTM8020 and the circuit  components. Return the feedback divider to this (See Datasheet)", E2 GND (power) "The  GND connections serve as the main signal return and the  primary heat sink for the LTM8020. Tie the GND pins to  a local ground plane below the LTM8020 and the circuit  components. Return the feedback divider to this (See Datasheet)", E3 GND (power) "The  GND connections serve as the main signal return and the  primary heat sink for the LTM8020. Tie the GND pins to  a local ground plane below the LTM8020 and the circuit  components. Return the feedback divider to this (See Datasheet)", E4 GND (power) "The  GND connections serve as the main signal return and the  primary heat sink for the LTM8020. Tie the GND pins to  a local ground plane below the LTM8020 and the circuit  components. Return the feedback divider to this (See Datasheet)", E5 GND (power) "The  GND connections serve as the main signal return and the  primary heat sink for the LTM8020. Tie the GND pins to  a local ground plane below the LTM8020 and the circuit  components. Return the feedback divider to this (See Datasheet)"